# Altium schematic symbol library TXH 060-148.SchLib: 1 symbol
Pins are listed as number, name and electrical type; pins without a type are passive.

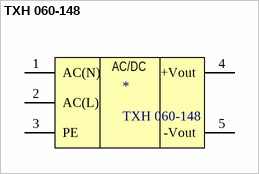
[diagram p0: symbol TXH 060-148]

## TXH 060-148
designator *
AC/DC Power Supply; Назначение: AC-DC преобразователь; Потребление, Вт: 60; Наименование: TXH 060-148
footprint TXH 060-148 (AC/DC Power Supply)
footprint TXH 060-148 (2) (AC/DC Power Supply)
pins: 1 AC(N) (power), 2 AC(L) (power), 3 PE (oc), 4 +Vout (power), 5 -Vout (power)
text: AC/DC